# EAGLE library part TINYS3 (library F360_Unexpected_Maker_TinyS3_Footprint)
Unexpected Maker - TinyS3 <https://esp32s3.com/tinys3.html>
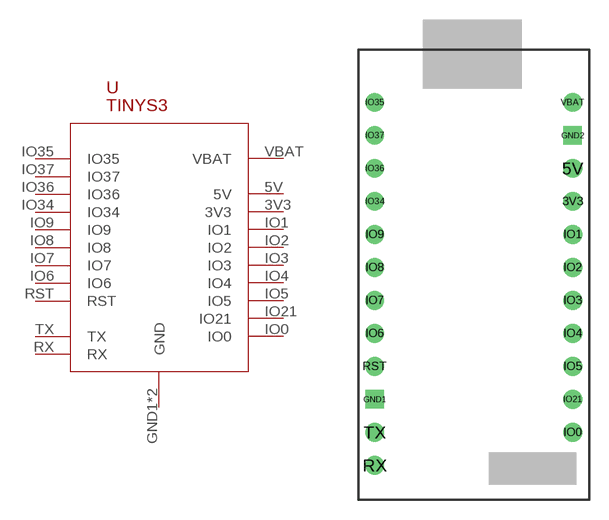
[diagram p0: symbol with the pads of TINYS3; footprint TINYS3]

Designator prefix U

## TINYS3  [TINYS3]
3V3  3V3  pwr
5V  5V  pwr
GND1  GND  pwr
GND2  GND  pwr
IO0  IO0
IO1  IO1
IO2  IO2
IO3  IO3
IO4  IO4
IO5  IO5
IO6  IO6
IO7  IO7
IO8  IO8
IO9  IO9
IO21  IO21
IO34  IO34
IO35  IO35
IO36  IO36
IO37  IO37
RST  RST  in
RX  RX
TX  TX
VBAT  VBAT  pwr

## Footprint TINYS3 (pad centres in mm)
Unexpected Maker - TinyS3 <https://esp32s3.com/tinys3.html> Footprint
drill 0.9 pad 1.45: 3V3 7.73,6.316; 5V 7.73,8.856; IO0 7.73,-11.464; IO1 7.73,3.776; IO2 7.73,1.236; IO3 7.73,-1.304; IO4 7.73,-3.844; IO5 7.73,-6.384; IO6 -7.51,-3.844; IO7 -7.51,-1.304; IO8 -7.51,1.236; IO9 -7.51,3.776; IO21 7.73,-8.924; IO34 -7.51,6.316; IO35 -7.51,13.936; IO36 -7.51,8.856; IO37 -7.51,11.396; RST -7.51,-6.384; RX -7.51,-14.004; TX -7.51,-11.464; VBAT 7.73,13.936
drill 0.914 pad 1.27 square: GND1 -7.51,-8.924; GND2 7.73,11.396